# Altium schematic symbol library C_0201.SchLib: 1 symbol
Pins are listed as number, name and electrical type; pins without a type are passive.

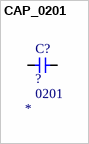
[diagram p0: symbol CAP_0201]

## CAP_0201
designator C?, comment ?  Package: 0201
Multilayer Ceramic Capacitors MLCC - SMD/SMT ROHS; Manufacturer: *; Manufacturer Part: *; Value: ?; LCSC: *; Voltage: *
footprint C0201
pins: 1, 2